# EAGLE library part XTR111 (library texas)
PREC VOLT-CURR CONV/TX 10MSOP
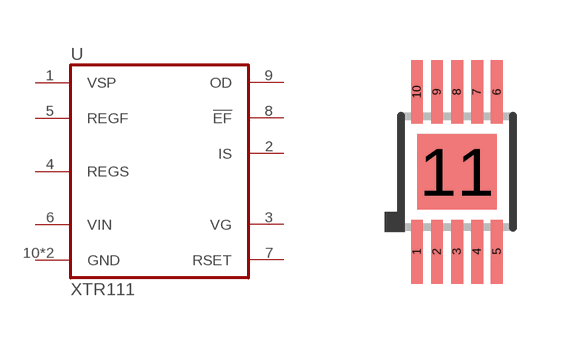
[diagram p125: symbol with the pads of MSOP10-POWERPAD; footprint MSOP10-POWERPAD]

Designator prefix U

## XTR111DGQ  [MSOP10-POWERPAD]
1  VSP  pwr
2  IS  pas
3  VG
4  REGS  in
5  REGF  out
6  VIN  in
7  RSET  in
8  !EF!  out
9  OD  in
10  GND  pwr
11  GND  pwr

## Footprint MSOP10-POWERPAD (pad centres in mm)
MSOP-PowerPAD 10 DGQ Package, Texas Instruments
smd 0.3 x 1.6: 1 -1,-2; 2 -0.5,-2; 3 0,-2; 4 0.5,-2; 5 1,-2; 6 1,2; 7 0.5,2; 8 0,2; 9 -0.5,2; 10 -1,2
smd 1.98 x 1.88: 11 0,0